# Altium footprint library connector.PcbLib: 80 footprints (part 2 of 5)
Each footprint in its own frame and in the unit in brackets; x right, y up, seen from the top. Pads: shape width x height; smd on the part's side, far side on the other; paste and mask are expansions set on the pad; w line width, h text height; cw(c..) or ccw(c..) is an arc to the next point about the centre after c.
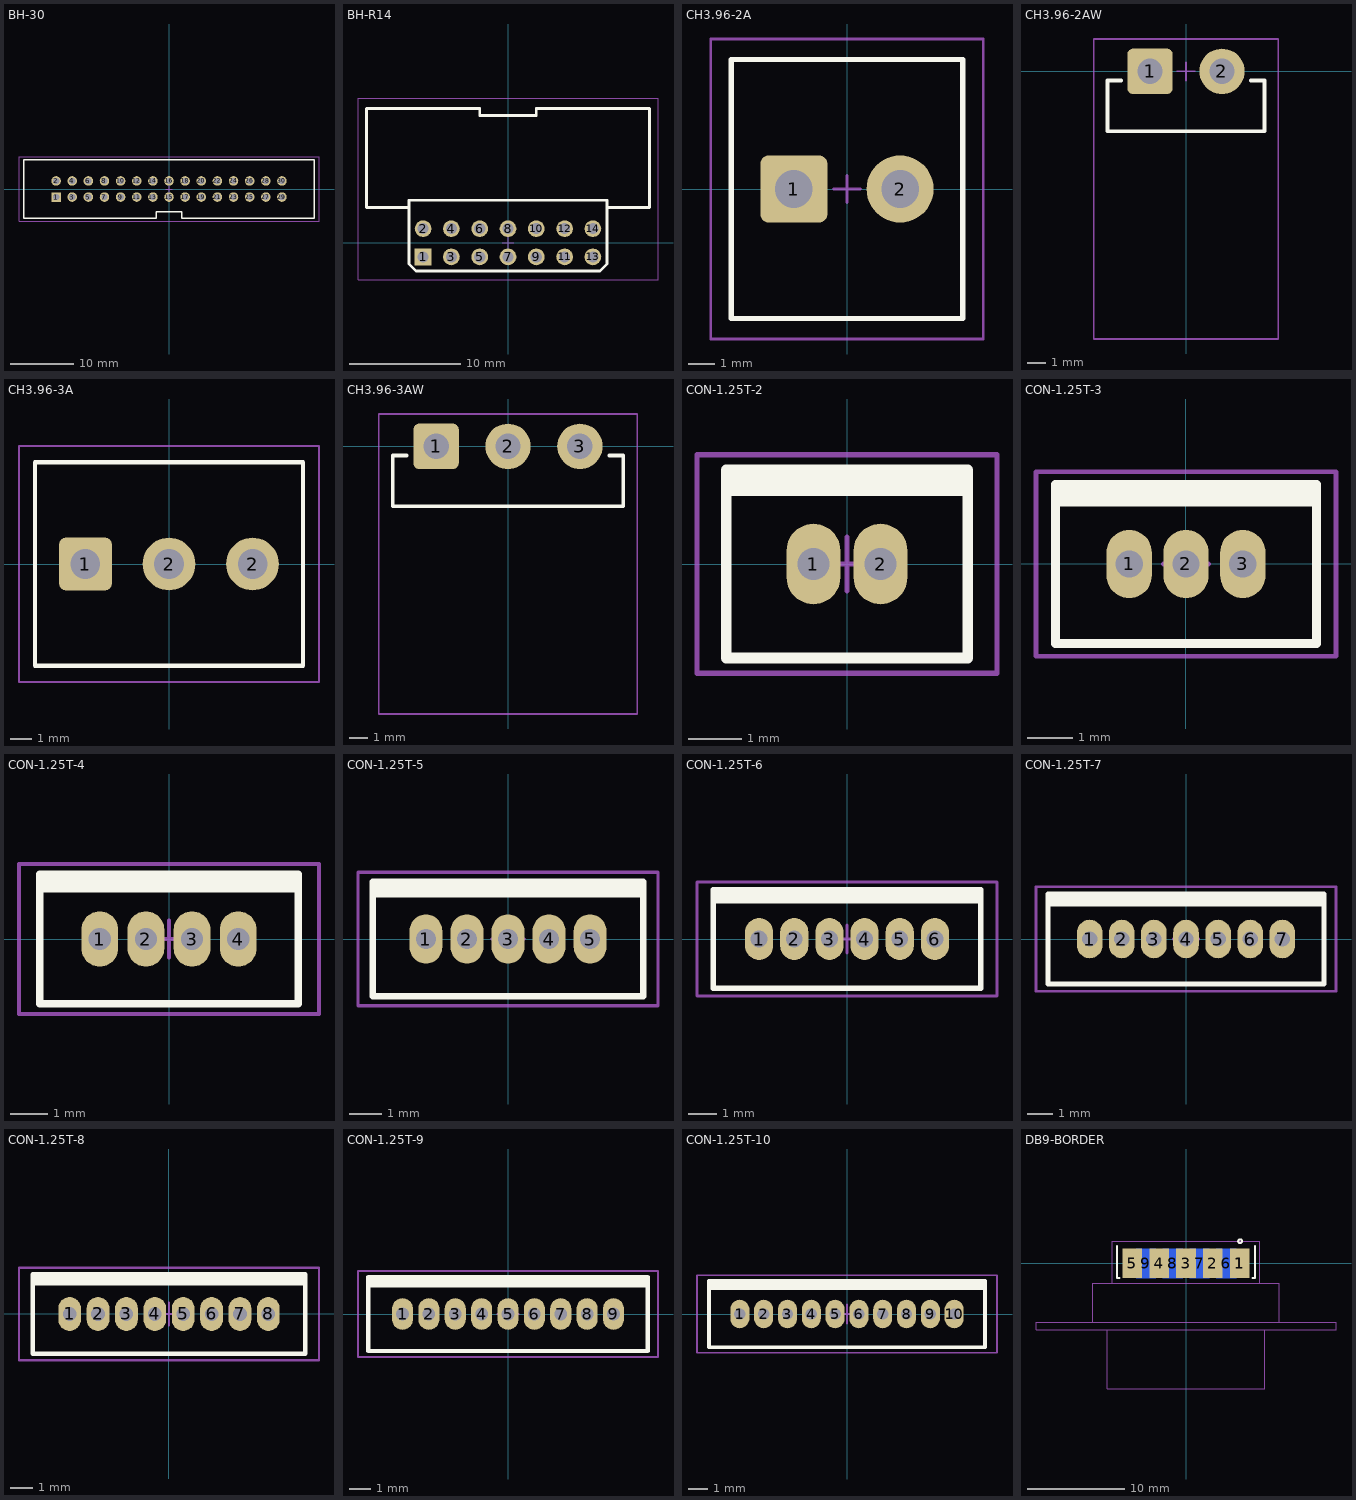
[diagram p1: the footprints below, top view; thin cyan lines are the x and y axes]

## BH-30 [mm]
pads (30):
  rect 1.5x1.5 hole 1: 1(-17.78,-1.27)
  round 1.5 hole 1: 2(-17.78,1.27) 3(-15.24,-1.27) 4(-15.24,1.27) 5(-12.7,-1.27) 6(-12.7,1.27) 7(-10.16,-1.27) 8(-10.16,1.27) 9(-7.62,-1.27) 10(-7.62,1.27) 11(-5.08,-1.27) 12(-5.08,1.27) 13(-2.54,-1.27) 14(-2.54,1.27) 15(0,-1.27) 16(0,1.27) 17(2.54,-1.27) 18(2.54,1.27) 19(5.08,-1.27) 20(5.08,1.27) 21(7.62,-1.27) 22(7.62,1.27) 23(10.16,-1.27) 24(10.16,1.27) 25(12.7,-1.27) 26(12.7,1.27) 27(15.24,-1.27) 28(15.24,1.27) 29(17.78,-1.27) 30(17.78,1.27)
Top Overlay:
  lines w0.2: -22.86,-4.572 -2.032,-4.572 -2.032,-3.556 2.032,-3.556 2.032,-4.572 22.86,-4.572 22.86,4.572 -22.86,4.572 -22.86,-4.572
Mechanical 13:
  lines w0.1: -23.622,-5.08 23.622,-5.08 23.622,5.08 -23.622,5.08 -23.622,-5.08
  text ".Designator" at -2.032,-1.016 h2
Mechanical 15:
  lines w0.05: -23.622,-5.08 23.622,-5.08 23.622,5.08 -23.622,5.08 -23.622,-5.08
  lines w0.1: -0.5,0 0.5,0 ; 0,-0.5 0,0.5
3D body: height 9, standoff 1, extent 21.844,-3.556 22.86,3.556
3D body: height 9, standoff 1, extent -22.86,-3.556 -21.844,3.556
3D body: height 9, standoff 1, extent -22.86,3.556 22.86,4.572
3D body: height 9, standoff 1, extent 2.032,-4.572 22.86,-3.556
3D body: height 9, standoff 1, extent -22.86,-4.572 -2.032,-3.556
3D body: height 1, standoff 0, extent -22.86,-4.572 22.86,4.572
3D body: height 8.5, standoff -3, extent -18.161,-1.651 -17.399,-0.889
3D body: height 8.5, standoff -3, extent -18.161,0.889 -17.399,1.651
3D body: height 8.5, standoff -3, extent 14.859,-1.651 15.621,-0.889
3D body: height 8.5, standoff -3, extent 14.859,0.889 15.621,1.651
3D body: height 8.5, standoff -3, extent 12.319,-1.651 13.081,-0.889
3D body: height 8.5, standoff -3, extent 12.319,0.889 13.081,1.651
3D body: height 8.5, standoff -3, extent 9.779,-1.651 10.541,-0.889
3D body: height 8.5, standoff -3, extent 9.779,0.889 10.541,1.651
3D body: height 8.5, standoff -3, extent 7.239,-1.651 8.001,-0.889
3D body: height 8.5, standoff -3, extent 7.239,0.889 8.001,1.651
3D body: height 8.5, standoff -3, extent 4.699,-1.651 5.461,-0.889
3D body: height 8.5, standoff -3, extent 4.699,0.889 5.461,1.651
3D body: height 8.5, standoff -3, extent -15.621,-1.651 -14.859,-0.889
3D body: height 8.5, standoff -3, extent -15.621,0.889 -14.859,1.651
3D body: height 8.5, standoff -3, extent -13.081,-1.651 -12.319,-0.889
3D body: height 8.5, standoff -3, extent -13.081,0.889 -12.319,1.651
3D body: height 8.5, standoff -3, extent -10.541,-1.651 -9.779,-0.889
3D body: height 8.5, standoff -3, extent -10.541,0.889 -9.779,1.651
3D body: height 8.5, standoff -3, extent -8.001,-1.651 -7.239,-0.889
3D body: height 8.5, standoff -3, extent -8.001,0.889 -7.239,1.651
3D body: height 8.5, standoff -3, extent -5.461,-1.651 -4.699,-0.889
3D body: height 8.5, standoff -3, extent -5.461,0.889 -4.699,1.651
3D body: height 8.5, standoff -3, extent -2.921,-1.651 -2.159,-0.889
3D body: height 8.5, standoff -3, extent -2.921,0.889 -2.159,1.651
3D body: height 8.5, standoff -3, extent -0.381,-1.651 0.381,-0.889
3D body: height 8.5, standoff -3, extent -0.381,0.889 0.381,1.651
3D body: height 8.5, standoff -3, extent 2.159,-1.651 2.921,-0.889
3D body: height 8.5, standoff -3, extent 2.159,0.889 2.921,1.651
3D body: height 8.5, standoff -3, extent 17.399,-1.651 18.161,-0.889
3D body: height 8.5, standoff -3, extent 17.399,0.889 18.161,1.651

## BH-R14 [mm]
pads (14):
  rect 1.5x1.5 hole 1: 1(-7.62,-1.27)
  round 1.5 hole 1: 2(-7.62,1.27) 3(-5.08,-1.27) 4(-5.08,1.27) 5(-2.54,-1.27) 6(-2.54,1.27) 7(0,-1.27) 8(0,1.27) 9(2.54,-1.27) 10(2.54,1.27) 11(5.08,-1.27) 12(5.08,1.27) 13(7.62,-1.27) 14(7.62,1.27)
Top Overlay:
  lines w0.254: -8.89,3.175 -12.7,3.175 -12.7,12.065 -2.54,12.065 -2.54,11.43 2.54,11.43 2.54,12.065 12.7,12.065 12.7,3.175 8.89,3.175 ; -8.89,-1.905 -8.255,-2.54 8.255,-2.54 8.89,-1.905 8.89,3.81 -8.89,3.81 -8.89,-1.905
Mechanical 13:
  lines w0.1: -13.462,-3.302 -13.462,12.954 13.462,12.954 13.462,-3.302 -13.462,-3.302
  text ".Designator" at -2.286,3.81 h2
Mechanical 15:
  lines w0.05: -13.462,-3.302 -13.462,12.954 13.462,12.954 13.462,-3.302 -13.462,-3.302
  lines w0.1: -0.5,0 0.5,0 ; 0,-0.5 0,0.5
3D body "IDC2.54-14MS.STEP": height 9.1, standoff -3.3, extent -12.725,-1.595 12.755,11.905

## CH3.96-2A [mm]
pads (2):
  rrect25% 2.5x2.5 hole 1.4: 1(-1.98,0)
  round 2.5 hole 1.4: 2(1.98,0)
Top Overlay:
  lines w0.2: -4.318,-4.826 4.318,-4.826 4.318,4.826 -4.318,4.826 -4.318,-4.826
Mechanical 13:
  lines w0.1: -5.08,-5.588 5.08,-5.588 5.08,5.588 -5.08,5.588 -5.08,-5.588
  text ".Designator" at -2.286,-1.016 h2
Mechanical 15:
  lines w0.05: -5.08,-5.588 5.08,-5.588 5.08,5.588 -5.08,5.588 -5.08,-5.588
  lines w0.1: -0.5,0 0.5,0 ; 0,-0.5 0,0.5
3D body: height 14, standoff -4, extent 1.472,-0.508 2.488,0.508
3D body: height 14, standoff -4, extent -2.488,-0.508 -1.472,0.508
3D body: height 2.7, standoff 0, extent -4.318,-4.826 4.318,4.064
3D body: height 12.7, standoff 0, extent -4.318,4.064 4.318,4.826

## CH3.96-2AW [mm]
pads (2):
  rrect25% 2.5x2.5 hole 1.4: 1(-1.98,0)
  round 2.5 hole 1.4: 2(1.98,0)
Top Overlay:
  lines w0.2: -3.556,-0.508 -4.318,-0.508 -4.318,-3.302 4.318,-3.302 4.318,-0.508 3.556,-0.508
Mechanical 13:
  lines w0.1: -5.08,-14.732 5.08,-14.732 5.08,1.778 -5.08,1.778 -5.08,-14.732
  text ".Designator" at -2.286,-7.62 h2
Mechanical 15:
  lines w0.05: -5.08,-14.732 -5.08,1.778 5.08,1.778 5.08,-14.732 -5.08,-14.732
  lines w0.1: -0.5,0 0.5,0 ; 0,-0.5 0,0.5
3D body: height 5, standoff -4, extent 1.472,-0.508 2.488,0.508
3D body: height 5, standoff -4, extent -2.488,-0.508 -1.472,0.508
3D body: height 9.7, standoff 9, extent -4.318,-12.954 4.318,-3.302
3D body: height 9.7, standoff 0, extent -4.318,-3.302 4.318,-0.508
3D body: height 5, standoff 4, extent -2.488,-13.97 -1.472,0
3D body: height 5, standoff 4, extent 1.472,-13.97 2.488,0

## CH3.96-3A [mm]
pads (3):
  rrect25% 2.5x2.5 hole 1.4: 1(-3.96,0)
  round 2.5 hole 1.4: 2(0,0) 2(3.96,0)
Top Overlay:
  lines w0.2: -6.35,-4.826 6.35,-4.826 6.35,4.826 -6.35,4.826 -6.35,-4.826
Mechanical 13:
  lines w0.1: -7.112,-5.588 -7.112,5.588 7.112,5.588 7.112,-5.588 -7.112,-5.588
  text ".Designator" at -2.286,-1.016 h2
Mechanical 15:
  lines w0.05: -7.112,-5.588 -7.112,5.588 7.112,5.588 7.112,-5.588 -7.112,-5.588
  lines w0.1: -0.5,0 0.5,0 ; 0,-0.5 0,0.5
3D body: height 14, standoff -4, extent 3.452,-0.508 4.468,0.508
3D body: height 14, standoff -4, extent -4.468,-0.508 -3.452,0.508
3D body: height 14, standoff -4, extent -0.508,-0.508 0.508,0.508
3D body: height 2.7, standoff 0, extent -6.35,-4.826 6.35,4.064
3D body: height 12.7, standoff 0, extent -6.35,4.064 6.35,4.826

## CH3.96-3AW [mm]
pads (3):
  rrect25% 2.5x2.5 hole 1.4: 1(-3.96,0)
  round 2.5 hole 1.4: 2(0,0) 3(3.96,0)
Top Overlay:
  lines w0.2: -5.588,-0.508 -6.35,-0.508 -6.35,-3.302 6.35,-3.302 6.35,-0.508 5.588,-0.508
Mechanical 13:
  lines w0.1: -7.112,-14.732 -7.112,1.778 7.112,1.778 7.112,-14.732 -7.112,-14.732
  text ".Designator" at -2.286,-7.62 h2
Mechanical 15:
  lines w0.05: -7.112,-14.732 -7.112,1.778 7.112,1.778 7.112,-14.732 -7.112,-14.732
  lines w0.1: -0.5,0 0.5,0 ; 0,-0.5 0,0.5
3D body: height 5, standoff 4, extent -4.468,-13.97 -3.452,0
3D body: height 5, standoff 4, extent 3.452,-13.97 4.468,0
3D body: height 5, standoff 4, extent -0.508,-13.97 0.508,0
3D body: height 5, standoff -4, extent -4.468,-0.508 -3.452,0.508
3D body: height 5, standoff -4, extent 3.452,-0.508 4.468,0.508
3D body: height 5, standoff -4, extent -0.508,-0.508 0.508,0.508
3D body: height 9.7, standoff 0, extent -6.35,-3.302 6.35,-0.508
3D body: height 9.7, standoff 9, extent -6.35,-12.954 6.35,-3.302

## CON-1.25T-2 [mm]
pads (2):
  oval 1x1.5 hole 0.6: 1(-0.625,0) 2(0.625,0)
Top Overlay:
  region: -2.25,1.27 2.25,1.27 2.25,1.75 -2.25,1.75
  lines w0.2: -2.25,-1.75 -2.25,1.75 2.25,1.75 2.25,-1.75 -2.25,-1.75
Mechanical 13:
  lines w0.1: -2.794,-2.032 -2.794,2.032 2.794,2.032 2.794,-2.032 -2.794,-2.032
  text ".Designator" at -1.778,-0.762 h1.4
Mechanical 15:
  lines w0.05: -2.794,-2.032 2.794,-2.032 2.794,2.032 -2.794,2.032 -2.794,-2.032
  lines w0.1: -0.5,0 0.5,0 ; 0,-0.5 0,0.5
3D body: height 4.5, standoff -3, extent 0.438,-0.187 0.813,0.188
3D body: height 4.5, standoff -3, extent -0.812,-0.187 -0.437,0.188
3D body: height 1, standoff 0, extent -2.25,-1.75 2.25,1.75

## CON-1.25T-3 [mm]
pads (3):
  oval 1x1.5 hole 0.6: 1(-1.25,0) 2(0,0) 3(1.25,0)
Top Overlay:
  region: -2.875,1.27 2.875,1.27 2.875,1.75 -2.875,1.75
  lines w0.2: -2.875,-1.75 2.875,-1.75 2.875,1.75 -2.875,1.75 -2.875,-1.75
Mechanical 13:
  lines w0.1: -3.302,-2.032 3.302,-2.032 3.302,2.032 -3.302,2.032 -3.302,-2.032
  text ".Designator" at -2.54,-1.016 h2
Mechanical 15:
  lines w0.05: -3.302,-2.032 3.302,-2.032 3.302,2.032 -3.302,2.032 -3.302,-2.032
  lines w0.1: -0.5,0 0.5,0 ; 0,-0.5 0,0.5
3D body: height 4.5, standoff -3, extent 1.063,-0.187 1.438,0.188
3D body: height 4.5, standoff -3, extent -0.187,-0.187 0.188,0.188
3D body: height 4.5, standoff -3, extent -1.437,-0.187 -1.062,0.188
3D body: height 1, standoff 0, extent -2.875,-1.75 2.875,1.75

## CON-1.25T-4 [mm]
pads (4):
  oval 1x1.5 hole 0.6: 1(-1.875,0) 2(-0.625,0) 3(0.625,0) 4(1.875,0)
Top Overlay:
  region: -3.5,1.27 3.5,1.27 3.5,1.75 -3.5,1.75
  lines w0.2: -3.5,-1.75 -3.5,1.75 3.5,1.75 3.5,-1.75 -3.5,-1.75
Mechanical 13:
  lines w0.1: -4.064,-2.032 4.064,-2.032 4.064,2.032 -4.064,2.032 -4.064,-2.032
  text ".Designator" at -2.54,-1.016 h2
Mechanical 15:
  lines w0.05: -4.064,-2.032 -4.064,2.032 4.064,2.032 4.064,-2.032 -4.064,-2.032
  lines w0.1: -0.5,0 0.5,0 ; 0,-0.5 0,0.5
3D body: height 4.5, standoff -3, extent 1.688,-0.187 2.063,0.188
3D body: height 4.5, standoff -3, extent 0.438,-0.187 0.813,0.188
3D body: height 4.5, standoff -3, extent -0.812,-0.187 -0.437,0.188
3D body: height 4.5, standoff -3, extent -2.062,-0.187 -1.687,0.188
3D body: height 1, standoff 0, extent -3.5,-1.75 3.5,1.75

## CON-1.25T-5 [mm]
pads (5):
  oval 1x1.5 hole 0.6: 1(-2.5,0) 2(-1.25,0) 3(0,0) 4(1.25,0) 5(2.5,0)
Top Overlay:
  region: -4.125,1.27 4.125,1.27 4.125,1.75 -4.125,1.75
  lines w0.2: -4.125,-1.75 -4.125,1.75 4.125,1.75 4.125,-1.75 -4.125,-1.75
Mechanical 13:
  lines w0.1: -4.572,-2.032 4.572,-2.032 4.572,2.032 -4.572,2.032 -4.572,-2.032
  text ".Designator" at -2.54,-1.016 h2
Mechanical 15:
  lines w0.05: -4.572,-2.032 -4.572,2.032 4.572,2.032 4.572,-2.032 -4.572,-2.032
  lines w0.1: -0.5,0 0.5,0 ; 0,-0.5 0,0.5
3D body: height 1, standoff 0, extent -4.125,-1.75 4.125,1.75
3D body: height 4.5, standoff -3, extent -2.687,-0.187 -2.312,0.188
3D body: height 4.5, standoff -3, extent -1.437,-0.187 -1.062,0.188
3D body: height 4.5, standoff -3, extent -0.188,-0.188 0.187,0.187
3D body: height 4.5, standoff -3, extent 1.063,-0.187 1.438,0.188
3D body: height 4.5, standoff -3, extent 2.313,-0.187 2.688,0.188

## CON-1.25T-6 [mm]
pads (6):
  oval 1x1.5 hole 0.6: 1(-3.125,0) 2(-1.875,0) 3(-0.625,0) 4(0.625,0) 5(1.875,0) 6(3.125,0)
Top Overlay:
  region: -4.75,1.27 4.75,1.27 4.75,1.75 -4.75,1.75
  lines w0.2: -4.75,-1.75 4.75,-1.75 4.75,1.75 -4.75,1.75 -4.75,-1.75
Mechanical 13:
  lines w0.1: -5.334,-2.032 5.334,-2.032 5.334,2.032 -5.334,2.032 -5.334,-2.032
  text ".Designator" at -2.54,-1.016 h2
Mechanical 15:
  lines w0.05: -5.334,-2.032 -5.334,2.032 5.334,2.032 5.334,-2.032 -5.334,-2.032
  lines w0.1: -0.5,0 0.5,0 ; 0,-0.5 0,0.5
3D body: height 1, standoff 0, extent -4.75,-1.75 4.75,1.75
3D body: height 4.5, standoff -3, extent -3.312,-0.187 -2.937,0.188
3D body: height 4.5, standoff -3, extent -2.062,-0.187 -1.687,0.188
3D body: height 4.5, standoff -3, extent -0.812,-0.187 -0.437,0.188
3D body: height 4.5, standoff -3, extent 0.438,-0.187 0.813,0.188
3D body: height 4.5, standoff -3, extent 1.688,-0.187 2.063,0.188
3D body: height 4.5, standoff -3, extent 2.938,-0.187 3.313,0.188

## CON-1.25T-7 [mm]
pads (7):
  oval 1x1.5 hole 0.6: 1(-3.75,0) 2(-2.5,0) 3(-1.25,0) 4(0,0) 5(1.25,0) 6(2.5,0) 7(3.75,0)
Top Overlay:
  region: -5.334,1.27 5.375,1.27 5.375,1.75 -5.334,1.75
  lines w0.2: -5.375,-1.75 5.375,-1.75 5.375,1.75 -5.375,1.75 -5.375,-1.75
Mechanical 13:
  lines w0.1: -5.842,-2.032 -5.842,2.032 5.842,2.032 5.842,-2.032 -5.842,-2.032
  text ".Designator" at -2.286,-1.016 h2
Mechanical 15:
  lines w0.05: -5.842,-2.032 -5.842,2.032 5.842,2.032 5.842,-2.032 -5.842,-2.032
  lines w0.1: -0.5,0 0.5,0 ; 0,-0.5 0,0.5
3D body: height 1, standoff 0, extent -5.375,-1.75 5.375,1.75
3D body: height 4.5, standoff -3, extent -3.937,-0.187 -3.562,0.188
3D body: height 4.5, standoff -3, extent -2.687,-0.187 -2.312,0.188
3D body: height 4.5, standoff -3, extent -1.437,-0.187 -1.062,0.188
3D body: height 4.5, standoff -3, extent -0.187,-0.187 0.188,0.188
3D body: height 4.5, standoff -3, extent 1.063,-0.187 1.438,0.188
3D body: height 4.5, standoff -3, extent 2.313,-0.187 2.688,0.188
3D body: height 4.5, standoff -3, extent 3.563,-0.187 3.938,0.188

## CON-1.25T-8 [mm]
pads (8):
  oval 1x1.5 hole 0.6: 1(-4.375,0) 2(-3.125,0) 3(-1.875,0) 4(-0.625,0) 5(0.625,0) 6(1.875,0) 7(3.125,0) 8(4.375,0)
Top Overlay:
  region: -6,1.27 6,1.27 6,1.75 -6,1.75
  lines w0.2: -6,-1.75 6,-1.75 6,1.75 -6,1.75 -6,-1.75
Mechanical 13:
  lines w0.1: -6.604,-2.032 6.604,-2.032 6.604,2.032 -6.604,2.032 -6.604,-2.032
  text ".Designator" at -2.286,-1.016 h2
Mechanical 15:
  lines w0.05: -6.604,-2.032 -6.604,2.032 6.604,2.032 6.604,-2.032 -6.604,-2.032
  lines w0.1: -0.5,0 0.5,0 ; 0,-0.5 0,0.5
3D body: height 4.5, standoff -3, extent 4.188,-0.187 4.563,0.188
3D body: height 4.5, standoff -3, extent 2.938,-0.187 3.313,0.188
3D body: height 4.5, standoff -3, extent 1.688,-0.187 2.063,0.188
3D body: height 4.5, standoff -3, extent 0.438,-0.187 0.813,0.188
3D body: height 4.5, standoff -3, extent -0.812,-0.187 -0.437,0.188
3D body: height 4.5, standoff -3, extent -2.062,-0.187 -1.687,0.188
3D body: height 4.5, standoff -3, extent -3.312,-0.187 -2.937,0.188
3D body: height 4.5, standoff -3, extent -4.562,-0.187 -4.187,0.188
3D body: height 1, standoff 0, extent -6,-1.75 6,1.75

## CON-1.25T-9 [mm]
pads (9):
  oval 1x1.5 hole 0.6: 1(-5,0) 2(-3.75,0) 3(-2.5,0) 4(-1.25,0) 5(0,0) 6(1.25,0) 7(2.5,0) 8(3.75,0) 9(5,0)
Top Overlay:
  region: -6.625,1.27 6.625,1.27 6.625,1.75 -6.625,1.75
  lines w0.2: -6.625,-1.75 -6.625,1.75 6.625,1.75 6.625,-1.75 -6.625,-1.75
Mechanical 13:
  lines w0.1: -7.112,-2.032 7.112,-2.032 7.112,2.032 -7.112,2.032 -7.112,-2.032
  text ".Designator" at -2.286,-1.016 h2
Mechanical 15:
  lines w0.05: -7.112,-2.032 -7.112,2.032 7.112,2.032 7.112,-2.032 -7.112,-2.032
  lines w0.1: -0.5,0 0.5,0 ; 0,-0.5 0,0.5
3D body: height 4.5, standoff -3, extent 4.813,-0.187 5.188,0.188
3D body: height 4.5, standoff -3, extent 3.563,-0.187 3.938,0.188
3D body: height 4.5, standoff -3, extent 2.313,-0.187 2.688,0.188
3D body: height 4.5, standoff -3, extent 1.063,-0.187 1.438,0.188
3D body: height 4.5, standoff -3, extent -0.187,-0.187 0.188,0.188
3D body: height 4.5, standoff -3, extent -1.437,-0.187 -1.062,0.188
3D body: height 4.5, standoff -3, extent -2.687,-0.187 -2.312,0.188
3D body: height 4.5, standoff -3, extent -3.937,-0.187 -3.562,0.188
3D body: height 4.5, standoff -3, extent -5.187,-0.187 -4.812,0.188
3D body: height 1, standoff 0, extent -6.625,-1.75 6.625,1.75

## CON-1.25T-10 [mm]
pads (10):
  oval 1x1.5 hole 0.6: 1(-5.625,0) 2(-4.375,0) 3(-3.125,0) 4(-1.875,0) 5(-0.625,0) 6(0.625,0) 7(1.875,0) 8(3.125,0) 9(4.375,0) 10(5.625,0)
Top Overlay:
  region: -7.25,1.27 7.25,1.27 7.25,1.75 -7.25,1.75
  lines w0.2: -7.25,-1.75 7.25,-1.75 7.25,1.75 -7.25,1.75 -7.25,-1.75
Mechanical 13:
  lines w0.1: -7.874,-2.032 7.874,-2.032 7.874,2.032 -7.874,2.032 -7.874,-2.032
  text ".Designator" at -2.286,-1.016 h2
Mechanical 15:
  lines w0.05: -7.874,-2.032 7.874,-2.032 7.874,2.032 -7.874,2.032 -7.874,-2.032
  lines w0.1: -0.5,0 0.5,0 ; 0,-0.5 0,0.5
3D body: height 4.5, standoff -3, extent -5.812,-0.187 -5.437,0.188
3D body: height 4.5, standoff -3, extent -4.562,-0.187 -4.187,0.188
3D body: height 4.5, standoff -3, extent -3.312,-0.187 -2.937,0.188
3D body: height 4.5, standoff -3, extent -2.062,-0.187 -1.687,0.188
3D body: height 4.5, standoff -3, extent -0.812,-0.187 -0.437,0.188
3D body: height 4.5, standoff -3, extent 0.438,-0.187 0.813,0.188
3D body: height 4.5, standoff -3, extent 1.688,-0.187 2.063,0.188
3D body: height 4.5, standoff -3, extent 2.938,-0.187 3.313,0.188
3D body: height 4.5, standoff -3, extent 4.188,-0.187 4.563,0.188
3D body: height 4.5, standoff -3, extent 5.438,-0.187 5.813,0.188
3D body: height 1, standoff 0, extent -7.25,-1.75 7.25,1.75

## DB9-BORDER [mil]
pads (10):
  rect 80x120 smd: 1(218,0) 1(218,0) 2(109,0) 3(0,0) 4(-109,0) 5(-218,0)
  rect 80x120 smd far side: 6(164,0) 7(55,0) 8(-54,0) 9(-163,0)
Top Overlay:
  circle w7.87: c220,90 r7.87
  lines w7.87: -280,70 -280,-60 -270,-60 ; 270,-60 280,-60 280,70
Bottom Overlay:
  lines w7.87: -280,70 -280,-60 -270,-60 ; 270,-60 280,-60 280,70
Mechanical 13:
  lines w3.94: -610,-270 -320,-270 -320,-510 320,-510 320,-270 610,-270 610,-240 380,-240 380,-80 300,-80 300,90 -300,90 -300,-80 -380,-80 -380,-240 -610,-240 -610,-270
  text ".Designator" at -90,-240 h78.74
Mechanical 15:
  lines w1.97: -610,-270 -610,-240 610,-240 610,-270 -610,-270 ; -380,-240 -380,-80 380,-80 380,-240 -380,-240 ; -320,-510 -320,-270 320,-270 320,-510 -320,-510 ; -300,-80 300,-80 300,90 -300,90 -300,-80
  lines w3.94: -19.69,0 19.68,0 ; 0,-19.69 0,19.68